# EAGLE library part TJC-024-9341.V0 (library Board4You)
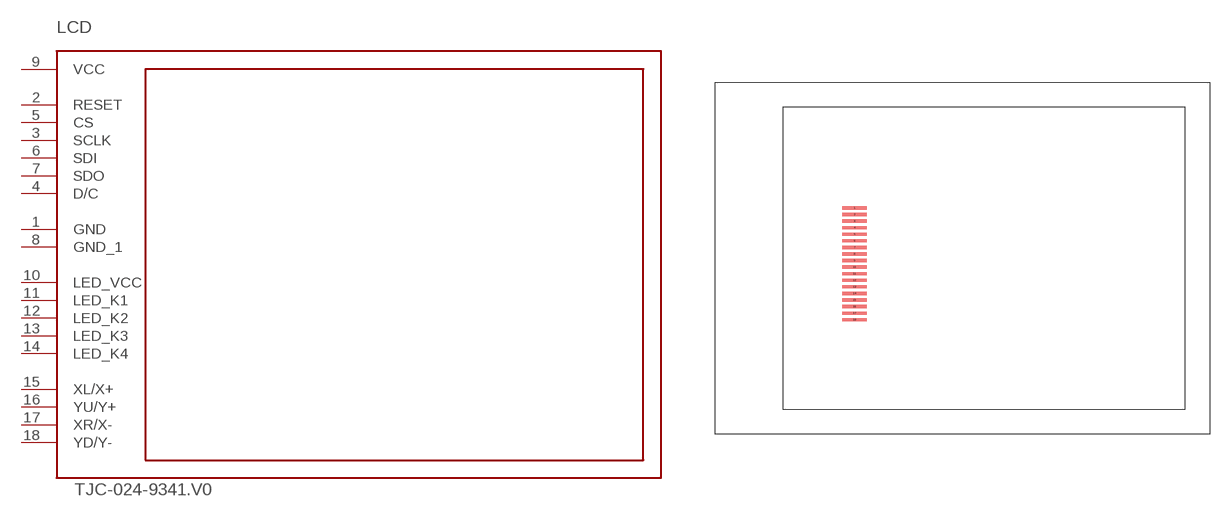
[diagram p9: symbol with the pads of TJC-024-9341.V0; footprint TJC-024-9341.V0]

Designator prefix LCD

## TJC-024-9341.V0  [TJC-024-9341.V0]
1  GND  pwr
2  RESET
3  SCLK
4  D/C
5  CS
6  SDI
7  SDO
8  GND_1  pwr
9  VCC  pwr
10  LED_VCC  pwr
11  LED_K1  pwr
12  LED_K2  pwr
13  LED_K3  pwr
14  LED_K4  pwr
15  XL/X+  pwr
16  YU/Y+  pwr
17  XR/X-  pwr
18  YD/Y-  pwr

## Footprint TJC-024-9341.V0 (pad centres in mm)
smd 3 x 0.4: 1 -13.13,6.14; 2 -13.13,5.34; 3 -13.13,4.54; 4 -13.13,3.74; 5 -13.13,2.94; 6 -13.13,2.14; 7 -13.13,1.34; 8 -13.13,0.54; 9 -13.13,-0.26; 10 -13.13,-1.06; 11 -13.13,-1.86; 12 -13.13,-2.66; 13 -13.13,-3.46; 14 -13.13,-4.26; 15 -13.13,-5.06; 16 -13.13,-5.86; 17 -13.13,-6.66; 18 -13.13,-7.46